# Altium footprint library 2020-11-26_03-13-05.PcbLib: 3 footprints
Each footprint in its own frame and in the unit in brackets; x right, y up, seen from the top. Pads: shape width x height; smd on the part's side, far side on the other; paste and mask are expansions set on the pad; w line width, h text height; cw(c..) or ccw(c..) is an arc to the next point about the centre after c.
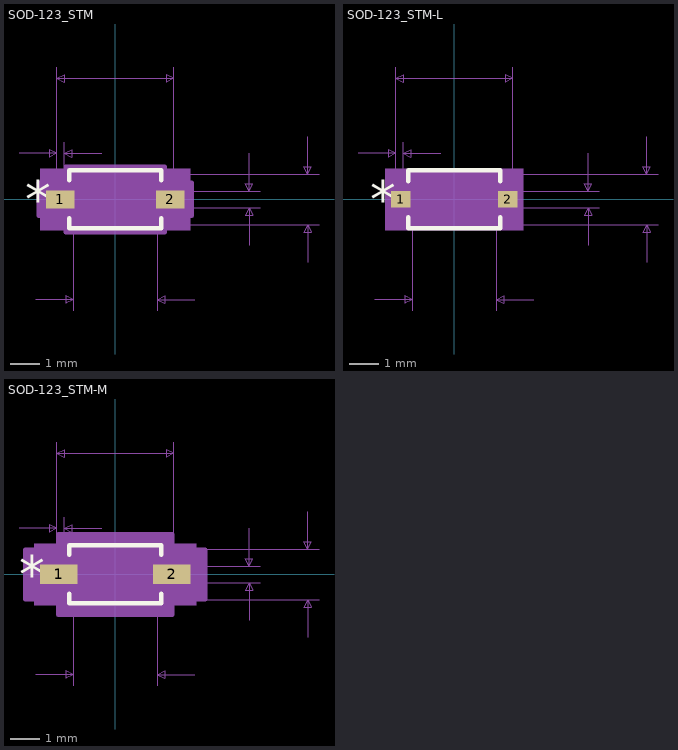
[diagram p0: the footprints below, top view; thin cyan lines are the x and y axes]

## SOD-123_STM [mil]
pads (2):
  rect 38x24 smd paste+0 mask+0: 1(-73,0) 2(73,0)
Top Overlay:
  lines w6: -61,-25.1 -61,-38.5 61,-38.5 61,-25.1 ; -61,25.1 -61,38.5 61,38.5 61,25.1
  text "*" at -119.5,-25 h50
Mechanical 5:
  region: 99.5,-41 -99.5,-41 -99.5,41 99.5,41
Mechanical 7:
  lines w1: -128,61 -78,61 ; -106,-133.5 -56,-133.5 ; -78,76 -78,0 -78,176 ; -68,0 -68,76 ; -56,-148.5 -56,0 ; -18,61 -68,61 ; 0,-33.5 271,-33.5 ; 0,33.5 271,33.5 ; 56,-148.5 56,0 ; 78,-11 193,-11 ; 78,0 78,176 ; 78,11 193,11 ; 106,-133.5 56,-133.5 ; 178,-61 178,-11 ; 178,61 178,11 ; 256,-83.5 256,-33.5 ; 256,83.5 256,33.5 ; -78,61 -88,66 -88,56 -78,61 ; -78,161 78,161 ; -78,161 -68,166 -68,156 -78,161 ; -68,61 -58,66 -58,56 -68,61 ; -56,-133.5 -66,-128.5 -66,-138.5 -56,-133.5 ; 56,-133.5 66,-128.5 66,-138.5 56,-133.5 ; 78,161 68,166 68,156 78,161 ; 178,-11 173,-21 183,-21 178,-11 ; 178,11 173,21 183,21 178,11 ; 256,-33.5 251,-43.5 261,-43.5 256,-33.5 ; 256,33.5 251,43.5 261,43.5 256,33.5
  text "Default Padstyle: RX38Y24D0T" at -350,-337 h50
  text "Alt 1 Padstyle: OX60Y90D30P" at -337.5,-412 h50
  text "Alt 2 Padstyle: OX90Y60D30P" at -337.5,-487 h50
  text "0.156in/3.962mm" at -93.75,181 h25
  text "0.01in/0.254mm" at -160.5,81 h25
  text "0.022in/0.559mm" at 198,-12.5 h25
  text "0.067in/1.702mm" at 276,-12.5 h25
  text "0.112in/2.845mm" at -93.75,-178.5 h25
Mechanical 13:
  lines w1: -56,-16.75 -39.25,-33.5 ; -56,16.75 -39.25,33.5 ; -78,-11 -78,11 -56,11 -56,-11 -78,-11 ; -56,-33.5 56,-33.5 56,33.5 -56,33.5 -56,-33.5 ; 56,-11 56,11 78,11 78,-11 56,-11
  text "*" at -58.5,-25 h50
Mechanical 15:
  region: -66,-22 -102,-22 -102,22 -66,22 -66,43.5 66,43.5 66,22 102,22 102,-22 66,-22 66,-43.5 -66,-43.5
  lines w6: -102,-22 -102,22 -66,22 -66,43.5 66,43.5 66,22 102,22 102,-22 66,-22 66,-43.5 -66,-43.5 -66,-22 -102,-22
3D body: height 10, standoff 0, extent 0,0 10,10

## SOD-123_STM-L [mil]
pads (2):
  rect 26x22 smd paste+0 mask+0: 1(-71,0) 2(71,0)
Top Overlay:
  lines w6: -61,-24.1 -61,-38.5 61,-38.5 61,-24.1 ; -61,24.1 -61,38.5 61,38.5 61,24.1
  text "*" at -111.5,-25 h50
Mechanical 5:
  region: 91.5,-41 -91.5,-41 -91.5,41 91.5,41
Mechanical 7:
  lines w1: -128,61 -78,61 ; -106,-133.5 -56,-133.5 ; -78,76 -78,0 -78,176 ; -68,0 -68,76 ; -56,-148.5 -56,0 ; -18,61 -68,61 ; 0,-33.5 271,-33.5 ; 0,33.5 271,33.5 ; 56,-148.5 56,0 ; 78,-11 193,-11 ; 78,0 78,176 ; 78,11 193,11 ; 106,-133.5 56,-133.5 ; 178,-61 178,-11 ; 178,61 178,11 ; 256,-83.5 256,-33.5 ; 256,83.5 256,33.5 ; -78,61 -88,66 -88,56 -78,61 ; -78,161 78,161 ; -78,161 -68,166 -68,156 -78,161 ; -68,61 -58,66 -58,56 -68,61 ; -56,-133.5 -66,-128.5 -66,-138.5 -56,-133.5 ; 56,-133.5 66,-128.5 66,-138.5 56,-133.5 ; 78,161 68,166 68,156 78,161 ; 178,-11 173,-21 183,-21 178,-11 ; 178,11 173,21 183,21 178,11 ; 256,-33.5 251,-43.5 261,-43.5 256,-33.5 ; 256,33.5 251,43.5 261,43.5 256,33.5
  text "Default Padstyle: RX26Y22D0T" at -350,-336 h50
  text "Alt 1 Padstyle: OX60Y90D30P" at -337.5,-411 h50
  text "Alt 2 Padstyle: OX90Y60D30P" at -337.5,-486 h50
  text "0.156in/3.962mm" at -93.75,181 h25
  text "0.01in/0.254mm" at -160.5,81 h25
  text "0.022in/0.559mm" at 198,-12.5 h25
  text "0.067in/1.702mm" at 276,-12.5 h25
  text "0.112in/2.845mm" at -93.75,-178.5 h25
Mechanical 13:
  lines w1: -56,-16.75 -39.25,-33.5 ; -56,16.75 -39.25,33.5 ; -78,-11 -78,11 -56,11 -56,-11 -78,-11 ; -56,-33.5 56,-33.5 56,33.5 -56,33.5 -56,-33.5 ; 56,-11 56,11 78,11 78,-11 56,-11
  text "*" at -58.5,-25 h50
Mechanical 15:
  region: -60,-15 -88,-15 -88,15 -60,15 -60,37.5 60,37.5 60,15 88,15 88,-15 60,-15 60,-37.5 -60,-37.5
  lines w6: -88,-15 -88,15 -60,15 -60,37.5 60,37.5 60,15 88,15 88,-15 60,-15 60,-37.5 -60,-37.5 -60,-15 -88,-15
3D body: height 10, standoff 0, extent 0,0 10,10

## SOD-123_STM-M [mil]
pads (2):
  rect 50x26 smd paste+0 mask+0: 1(-75,0) 2(75,0)
Top Overlay:
  lines w6: -61,-26.1 -61,-38.5 61,-38.5 61,-26.1 ; -61,26.1 -61,38.5 61,38.5 61,26.1
  text "*" at -127.5,-25 h50
Mechanical 5:
  region: 107.5,-41 -107.5,-41 -107.5,41 107.5,41
Mechanical 7:
  lines w1: -128,61 -78,61 ; -106,-133.5 -56,-133.5 ; -78,76 -78,0 -78,176 ; -68,0 -68,76 ; -56,-148.5 -56,0 ; -18,61 -68,61 ; 0,-33.5 271,-33.5 ; 0,33.5 271,33.5 ; 56,-148.5 56,0 ; 78,-11 193,-11 ; 78,0 78,176 ; 78,11 193,11 ; 106,-133.5 56,-133.5 ; 178,-61 178,-11 ; 178,61 178,11 ; 256,-83.5 256,-33.5 ; 256,83.5 256,33.5 ; -78,61 -88,66 -88,56 -78,61 ; -78,161 78,161 ; -78,161 -68,166 -68,156 -78,161 ; -68,61 -58,66 -58,56 -68,61 ; -56,-133.5 -66,-128.5 -66,-138.5 -56,-133.5 ; 56,-133.5 66,-128.5 66,-138.5 56,-133.5 ; 78,161 68,166 68,156 78,161 ; 178,-11 173,-21 183,-21 178,-11 ; 178,11 173,21 183,21 178,11 ; 256,-33.5 251,-43.5 261,-43.5 256,-33.5 ; 256,33.5 251,43.5 261,43.5 256,33.5
  text "Default Padstyle: RX50Y26D0T" at -350,-338 h50
  text "Alt 1 Padstyle: OX60Y90D30P" at -337.5,-413 h50
  text "Alt 2 Padstyle: OX90Y60D30P" at -337.5,-488 h50
  text "0.156in/3.962mm" at -93.75,181 h25
  text "0.01in/0.254mm" at -160.5,81 h25
  text "0.022in/0.559mm" at 198,-12.5 h25
  text "0.067in/1.702mm" at 276,-12.5 h25
  text "0.112in/2.845mm" at -93.75,-178.5 h25
Mechanical 13:
  lines w1: -56,-16.75 -39.25,-33.5 ; -56,16.75 -39.25,33.5 ; -78,-11 -78,11 -56,11 -56,-11 -78,-11 ; -56,-33.5 56,-33.5 56,33.5 -56,33.5 -56,-33.5 ; 56,-11 56,11 78,11 78,-11 56,-11
  text "*" at -58.5,-25 h50
Mechanical 15:
  region: -76,-33 -120,-33 -120,33 -76,33 -76,53.5 76,53.5 76,33 120,33 120,-33 76,-33 76,-53.5 -76,-53.5
  lines w6: -120,-33 -120,33 -76,33 -76,53.5 76,53.5 76,33 120,33 120,-33 76,-33 76,-53.5 -76,-53.5 -76,-33 -120,-33
3D body: height 10, standoff 0, extent 0,0 10,10